# Altium schematic symbol library TEST.SCHLIB: 25 symbols
Pins are listed as number, name and electrical type; pins without a type are passive.

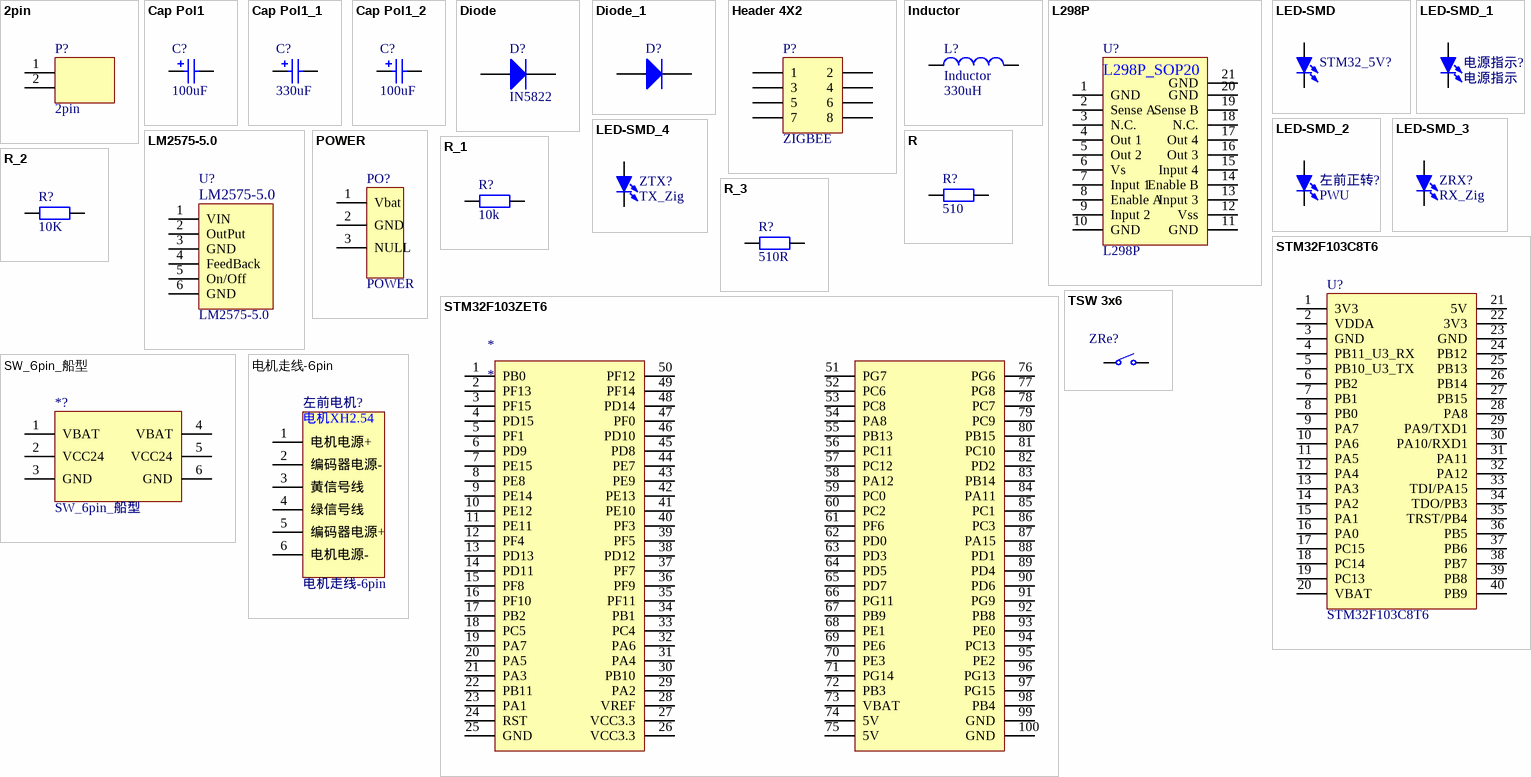
[diagram p0: symbols 2pin to 电机走线-6pin]

## 2pin
designator P?
footprint 2pin
pins: 1, 2

## Cap Pol1
designator C?, comment 100uF
Polarized Capacitor (Radial); Published: 8-Jun-2000; LatestRevisionDate: 17-Jul-2002; LatestRevisionNote: Re-released for DXP Platform.; PackageReference: RB7.6-15; Publisher: Altium Limited; PackageDescription: Polarized Capacitor (Radial); 2 Leads; Value: 100uF
footprint RB7.6-15 (Polarized Capacitor (Radial); 2 Leads)
simulation model CAP (Capacitor)
signal-integrity model Cap Pol
pins: 1, 2
1 alternate drawing of the same symbol

## Cap Pol1_1
designator C?, comment value 330uF  (hidden comment: Cap Pol1)
Polarized Capacitor (Radial); Published: 8-Jun-2000; LatestRevisionDate: 17-Jul-2002; LatestRevisionNote: Re-released for DXP Platform.; PackageReference: RB7.6-15; Publisher: Altium Limited; PackageDescription: Polarized Capacitor (Radial); 2 Leads
footprint RB7.6-15 (Polarized Capacitor (Radial); 2 Leads)
simulation model CAP (Capacitor)
signal-integrity model Cap Pol
pins: 1, 2
1 alternate drawing of the same symbol

## Cap Pol1_2
designator C?, comment 100uF
极性电容; Published: 8-Jun-2000; LatestRevisionDate: 17-Jul-2002; LatestRevisionNote: Re-released for DXP Platform.; PackageReference: RB7.6-15; Publisher: Altium Limited; PackageDescription: Polarized Capacitor (Radial); 2 Leads; Value: 100uF
footprint RB7.6-15 (Polarized Capacitor (Radial); 2 Leads)
simulation model CAP (Capacitor)
signal-integrity model Cap Pol
pins: 1, 2
1 alternate drawing of the same symbol

## Diode
designator D?, comment IN5822
Default Diode; Published: 8-Jun-2000; LatestRevisionDate: 17-Jul-2002; LatestRevisionNote: Re-released for DXP Platform.; PackageVersion: Sep-1996; PackageReference: SMC; Publisher: Altium Limited; PackageDescription: DO-214-AB/SMC; 2 C-Bend Leads; Body 7.9 x 5.9 mm, inc. leads (LxW); Code_JEDEC: DO-214-AB
simulation model DIODE (Diode)
signal-integrity model Diode
footprint SMB (DO-214-AA/SMB; 2 C-Bend Leads; Body 5.3 x 3.6 mm, inc. leads (LxW))
pins: 1 A, 2 K

## Diode_1
designator D?, comment SS14  (value not drawn)
Default Diode; Published: 8-Jun-2000; LatestRevisionDate: 17-Jul-2002; LatestRevisionNote: Re-released for DXP Platform.; PackageVersion: Sep-1996; PackageReference: SMC; Publisher: Altium Limited; PackageDescription: DO-214-AB/SMC; 2 C-Bend Leads; Body 7.9 x 5.9 mm, inc. leads (LxW); Code_JEDEC: DO-214-AB
simulation model DIODE (Diode)
signal-integrity model Diode
footprint SMB (DO-214-AA/SMB; 2 C-Bend Leads; Body 5.3 x 3.6 mm, inc. leads (LxW))
pins: 1 A, 2 K

## Header 4X2
designator P?, comment ZIGBEE
Header, 4-Pin, Dual row; LatestRevisionDate: 17-Jul-2002; LatestRevisionNote: Re-released for DXP Platform.; Publisher: Altium Limited
signal-integrity model Connector
footprint DRF1609H-DIP
pins: 1, 2, 3, 4, 5, 6, 7, 8

## Inductor
designator L?  value 330uH
Code_IEC: 1005; Published: 8-Jun-2000; LatestRevisionDate: 29-May-2009; LatestRevisionNote: IPC-7351 Footprint Added.; PackageReference: 0402-A; Publisher: Altium Limited; PackageDescription: Chip Inductor; Code_JEITA: 0402
simulation model INDUCTOR (Inductor)
signal-integrity model Inductor
footprint PK0608 (2.5*7*10mm(脚距，直径，高）)
pins: 1, 2

## L298P
designator U?
footprint SOP20 (（蒜米工坊）)
pins: 1 GND, 2 Sense A, 3 N.C., 4 Out 1, 5 Out 2, 6 Vs, 7 Input 1, 8 Enable A, 9 Input 2, 10 GND, 11 GND, 12 Vss, 13 Input 3, 14 Enable B, 15 Input 4, 16 Out 3, 17 Out 4, 18 N.C., 19 Sense B, 20 GND, 21 GND
text: L298P_SOP20

## LED-SMD
designator STM32_5V?
电源指示; BOM名称: 贴片LED; 版权归属: 黎明电子style; 学习资源: https://lmdzstyle.taobao.com/
footprint LED 0805B (蓝色0805LED)
pins: 1 A, 2 K

## LED-SMD_1
designator 电源指示?, comment 电源指示
贴片LED; 版权归属: 黎明电子style; BOM名称: 贴片LED; 学习资源: https://lmdzstyle.taobao.com/
footprint LED 0805B (蓝色0805LED)
pins: 1 A, 2 K

## LED-SMD_2
designator 左前正转?, comment PWU
贴片LED; 版权归属: 黎明电子style; BOM名称: 贴片LED; 学习资源: https://lmdzstyle.taobao.com/
footprint LED 0805B (蓝色0805LED)
pins: 1 A, 2 K

## LED-SMD_3
designator ZRX?, comment RX_Zig
贴片LED; 版权归属: 黎明电子style; BOM名称: 贴片LED; 学习资源: https://lmdzstyle.taobao.com/
footprint LED 0805R (红色0805LED)
footprint LED 0805R (红色0805LED)
footprint LED 0805R (红色0805LED)
footprint LED 0805R (红色0805LED)
footprint LED 0805R (红色0805LED)
pins: 1 A, 2 K

## LED-SMD_4
designator ZTX?, comment TX_Zig
贴片LED; 版权归属: 黎明电子style; BOM名称: 贴片LED; 学习资源: https://lmdzstyle.taobao.com/
footprint LED 0805R (红色0805LED)
footprint LED 0805R (红色0805LED)
footprint LED 0805R (红色0805LED)
footprint LED 0805R (红色0805LED)
footprint LED 0805R (红色0805LED)
pins: 1 A, 2 K

## LM2575-5.0
designator U?
降压芯片
footprint TO263-5A (263，5脚晶体管)
pins: 1 VIN, 2 OutPut, 3 GND, 4 FeedBack, 5 On/Off, 6 GND

## POWER
designator PO?
footprint DC-005 (DC母座5.5mm)
pins: 1 Vbat, 2 GND, 3 NULL

## R
designator R?, comment 510
贴片电阻; 版权归属: 黎明电子style; BOM名称: 贴片电阻; 学习资源: https://lmdzstyle.taobao.com/
footprint R 0805_L (1/8W贴片电阻)
pins: 1, 2

## R_1
designator R?, comment 10k
贴片电阻; 版权归属: 黎明电子style; BOM名称: 贴片电阻; 学习资源: https://lmdzstyle.taobao.com/
footprint R 0805_L (1/8W贴片电阻)
pins: 1, 2

## R_2
designator R?, comment 10K
贴片电阻; 版权归属: 黎明电子style; BOM名称: 贴片电阻; 学习资源: https://lmdzstyle.taobao.com/
footprint R 0805_L (1/8W贴片电阻)
pins: 1, 2

## R_3
designator R?, comment 510R
贴片电阻; 版权归属: 黎明电子style; BOM名称: 贴片电阻; 学习资源: https://lmdzstyle.taobao.com/
footprint R 0805_L (1/8W贴片电阻)
pins: 1, 2

## STM32F103C8T6
designator U?
telesky家的STM32F103C8T6
footprint STM32F103C8T6 (telesky家的STM32F103C8T6)
pins: 1 3V3, 2 VDDA, 3 GND, 4 PB11_U3_RX, 5 PB10_U3_TX, 6 PB2, 7 PB1, 8 PB0, 9 PA7, 10 PA6, 11 PA5, 12 PA4, 13 PA3, 14 PA2, 15 PA1, 16 PA0, 17 PC15, 18 PC14, 19 PC13, 20 VBAT, 21 5V, 22 3V3, 23 GND, 24 PB12, 25 PB13, 26 PB14, 27 PB15, 28 PA8, 29 PA9/TXD1, 30 PA10/RXD1, 31 PA11, 32 PA12, 33 TDI/PA15, 34 TDO/PB3, 35 TRST/PB4, 36 PB5, 37 PB6, 38 PB7, 39 PB8, 40 PB9

## STM32F103ZET6
designator *
正电原子 STM32F103C8T6
pins: 1 PB0, 2 PF13, 3 PF15, 4 PD15, 5 PF1, 6 PD9, 7 PE15, 8 PE8, 9 PE14, 10 PE12, 11 PE11, 12 PF4, 13 PD13, 14 PD11, 15 PF8, 16 PF10, 17 PB2, 18 PC5, 19 PA7, 20 PA5, 21 PA3, 22 PB11, 23 PA1, 24 RST, 25 GND, 26 VCC3.3, 27 VCC3.3, 28 VREF, 29 PA2, 30 PB10, 31 PA4, 32 PA6, 33 PC4, 34 PB1, 35 PF11, 36 PF9, 37 PF7, 38 PD12, 39 PF5, 40 PF3, 41 PE10, 42 PE13, 43 PE9, 44 PE7, 45 PD8, 46 PD10, 47 PF0, 48 PD14, 49 PF14, 50 PF12, 51 PG7, 52 PC6, 53 PC8, 54 PA8, 55 PB13, 56 PC11, 57 PC12, 58 PA12, 59 PC0, 60 PC2, 61 PF6, 62 PD0, 63 PD3, 64 PD5, 65 PD7, 66 PG11, 67 PB9, 68 PE1, 69 PE6, 70 PE3, 71 PG14, 72 PB3, 73 VBAT, 74 5V, 75 5V, 76 PG6, 77 PG8, 78 PC7, 79 PC9, 80 PB15, 81 PC10, 82 PD2, 83 PB14, 84 PA11, 85 PC1, 86 PC3, 87 PA15, 88 PD1, 89 PD4, 90 PD6, 91 PG9, 92 PB8, 93 PE0, 94 PC13, 95 PE2, 96 PG13, 97 PG15, 98 PB4, 99 GND, 100 GND

## SW_6pin_船型
designator *?
footprint KFT DIP-7X7 (自锁开关，规格：7*7mm); pin to pad 1>3 3>1
pins: 1 VBAT, 2 VCC24, 3 GND, 4 VBAT, 5 VCC24, 6 GND

## TSW 3x6
designator ZRe?, comment ZigReset  (value not drawn)
3x6轻触开关; 版权归属: 黎明电子style; BOM名称: 3x6轻触开关; 学习资源: https://lmdzstyle.taobao.com/
footprint 开关KCD1-101 (船型开关立式)
pins: 1, 2

## 电机走线-6pin
designator 左前电机?
footprint XH2.54-LI-6P (接插件，6P)
pins: 1 电机电源+, 2 编码器电源-, 3 黄信号线, 4 绿信号线, 5 编码器电源+, 6 电机电源-
text: 电机XH2.54